# Altium schematic symbol library OPA189ID.SchLib: 1 symbol
Pins are listed as number, name and electrical type; pins without a type are passive.

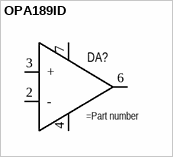
[diagram p0: symbol OPA189ID]

## OPA189ID
designator DA?
High-precision operational amplifier
pins: 2 -, 3 +, 4 GND, 6 Out, 7 Vdd